# Altium schematic symbol library Sch_NPO_Fizika.SchLib: 2 symbols
Pins are listed as number, name and electrical type; pins without a type are passive.

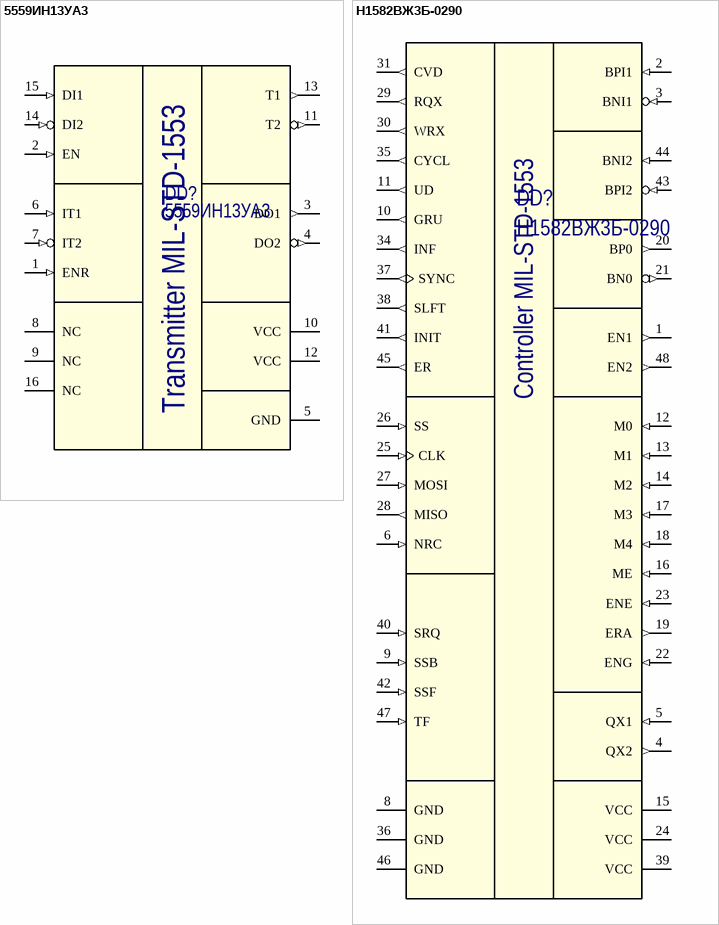
[diagram p0: symbols 5559ИН13УА3 to Н1582ВЖ3Б-0290]

## 5559ИН13УА3
designator DD?
Приёмопередатчик мультиплексного канала информационного обмена (МКИО) по ГОСТ Р 52070 и MIL-STD-1553B; Manufacturer: ОАО НПО "Физика"; Part Number: 5559ИН13УА3
footprint 5119.16-A
pins: 1 ENR (in), 2 EN (in), 3 DO1 (out), 4 DO2 (out), 5 GND (power), 6 IT1 (in), 7 IT2 (in), 8 NC, 9 NC, 10 VCC (power), 11 T2 (out), 12 VCC (power), 13 T1 (out), 14 DI2 (in), 15 DI1 (in), 16 NC
text: Transmitter MIL-STD-1553

## Н1582ВЖ3Б-0290
designator DD?
Controller MIL-STD-1553; Manufacturer: ОАО НПО «Физика»; Part Number: Н1582ВЖ3Б-0290
footprint H16.48-2B
pins: 1 EN1 (out), 2 BPI1 (in), 3 BNI1 (in), 4 QX2 (out), 5 QX1 (in), 6 NRC (in), 8 GND (power), 9 SSB (in), 10 GRU (out), 11 UD (out), 12 M0 (in), 13 M1 (in), 14 M2 (in), 15 VCC (power), 16 ME (in), 17 M3 (in), 18 M4 (in), 19 ERA (out), 20 BP0 (out), 21 BN0 (out), 22 ENG (in), 23 ENE (in), 24 VCC (power), 25 CLK (in), 26 SS (in), 27 MOSI (in), 28 MISO (out), 29 RQX (out), 30 WRX (out), 31 CVD (out), 34 INF (out), 35 CYCL (out), 36 GND (power), 37 SYNC (out), 38 SLFT (out), 39 VCC (power), 40 SRQ (in), 41 INIT (out), 42 SSF (in), 43 BPI2 (in), 44 BNI2 (in), 45 ER (out), 46 GND (power), 47 TF (in), 48 EN2 (out)